# Altium footprint library Fiducial.PcbLib: 1 footprints
Each footprint in its own frame and in the unit in brackets; x right, y up, seen from the top. Pads: shape width x height; smd on the part's side, far side on the other; paste and mask are expansions set on the pad; w line width, h text height; cw(c..) or ccw(c..) is an arc to the next point about the centre after c.
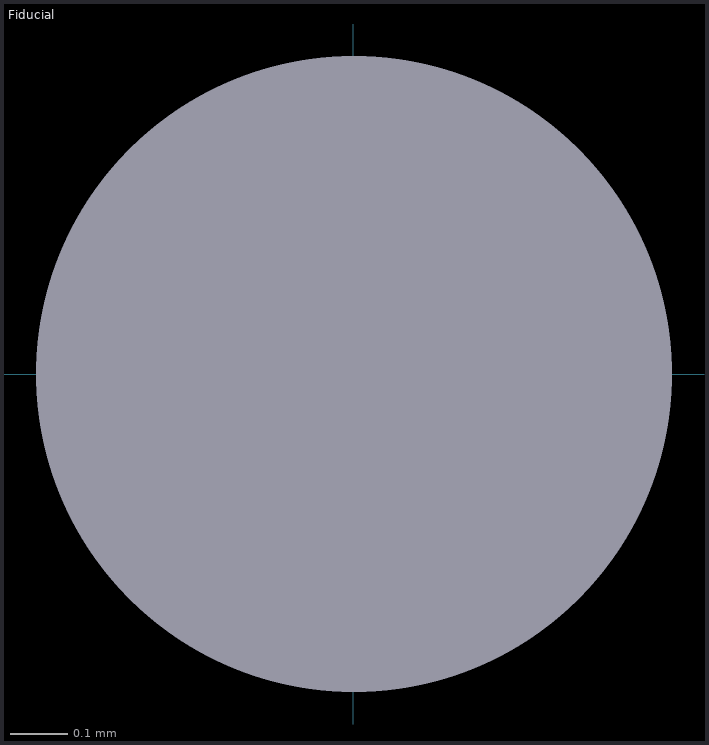
[diagram p0: the footprint, top view; thin cyan lines are the x and y axes]

## Fiducial [mm] "1mm Fiducial for tack"
pads (1):
  round 0 hole 1.1 unplated mask+1: 1(0.001,0)
Top Paste:
  circle w1.1: c0,0 r0.001